# Altium footprint library PcbLib.PcbLib: 285 footprints (part 6 of 18)
Each footprint in its own frame and in the unit in brackets; x right, y up, seen from the top. Pads: shape width x height; smd on the part's side, far side on the other; paste and mask are expansions set on the pad; w line width, h text height; cw(c..) or ccw(c..) is an arc to the next point about the centre after c.
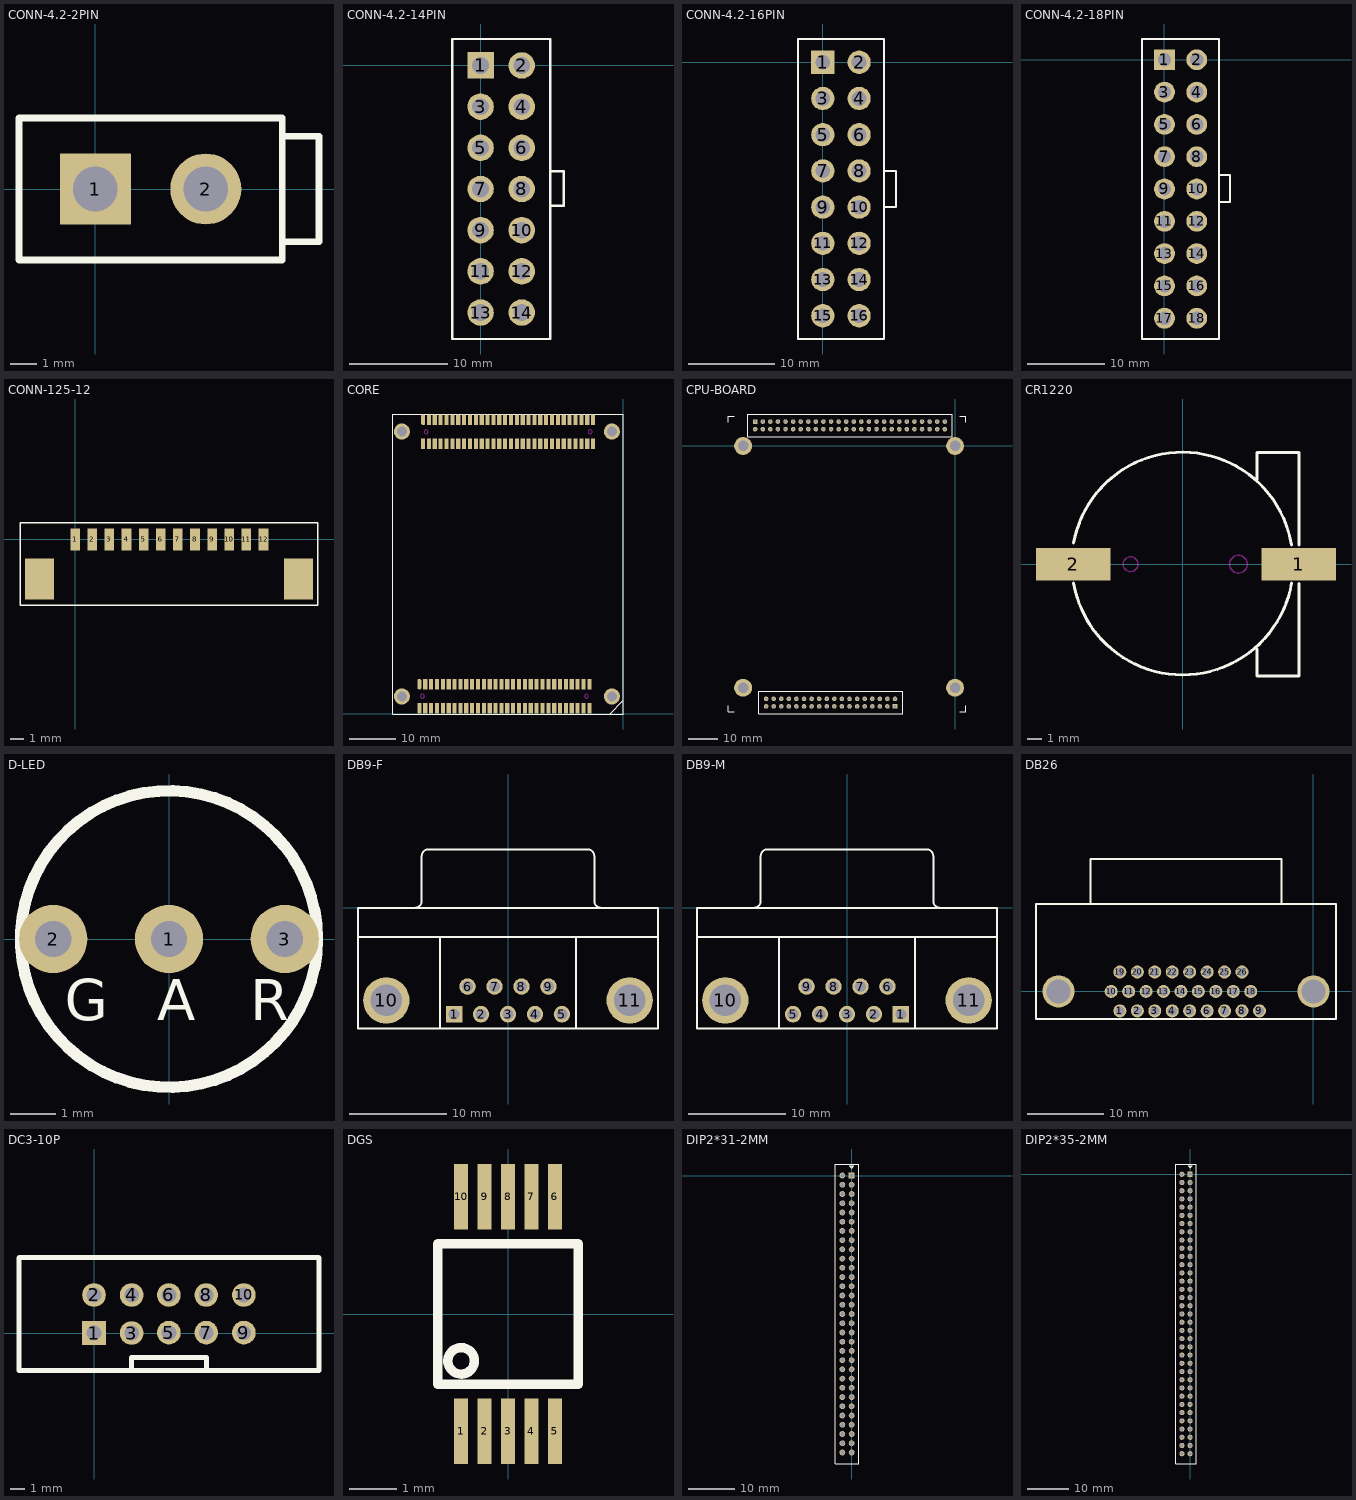
[diagram p5: the footprints below, top view; thin cyan lines are the x and y axes]

## CONN-4.2-2PIN [mm]
pads (2):
  rect 2.7x2.7 hole 1.7: 1(0,0)
  round 2.7 hole 1.7: 2(4.2,0)
Top Overlay:
  lines w0.254: 7.1,-2 8.5,-2 8.5,2 7.1,2 ; -2.9,-2.7 -2.9,2.7 7.1,2.7 7.1,-2.7 -2.9,-2.7

## CONN-4.2-14PIN [mm]
pads (14):
  rect 2.7x2.7 hole 1.7: 1(0,0)
  round 2.7 hole 1.7: 2(4.2,0) 3(0,-4.2) 4(4.2,-4.2) 5(0,-8.4) 6(4.2,-8.4) 7(0,-12.6) 8(4.2,-12.6) 9(0,-16.8) 10(4.2,-16.8) 11(0,-21) 12(4.2,-21) 13(0,-25.2) 14(4.2,-25.2)
Top Overlay:
  lines w0.254: 7.1,-14.3 8.5,-14.3 8.5,-10.8 7.1,-10.8 ; -2.9,-27.9 -2.9,2.7 7.1,2.7 7.1,-27.9 -2.9,-27.9

## CONN-4.2-16PIN [mm]
pads (16):
  rect 2.7x2.7 hole 1.7: 1(0,0)
  round 2.7 hole 1.7: 2(4.2,0) 3(0,-4.2) 4(4.2,-4.2) 5(0,-8.4) 6(4.2,-8.4) 7(0,-12.6) 8(4.2,-12.6) 9(0,-16.8) 10(4.2,-16.8) 11(0,-21) 12(4.2,-21) 13(0,-25.2) 14(4.2,-25.2) 15(0,-29.4) 16(4.2,-29.4)
Top Overlay:
  lines w0.254: 7.1,-16.8 8.5,-16.8 8.5,-12.6 7.1,-12.6 ; -2.9,-32.1 7.1,-32.1 7.1,2.7 -2.9,2.7 -2.9,-32.1

## CONN-4.2-18PIN [mm]
pads (18):
  rect 2.7x2.7 hole 1.7: 1(0,0)
  round 2.7 hole 1.7: 2(4.2,0) 3(0,-4.2) 4(4.2,-4.2) 5(0,-8.4) 6(4.2,-8.4) 7(0,-12.6) 8(4.2,-12.6) 9(0,-16.8) 10(4.2,-16.8) 11(0,-21) 12(4.2,-21) 13(0,-25.2) 14(4.2,-25.2) 15(0,-29.4) 16(4.2,-29.4) 17(0,-33.6) 18(4.2,-33.6)
Top Overlay:
  lines w0.254: 7.1,-18.5 8.5,-18.5 8.5,-15 7.1,-15 ; -2.9,-36.3 7.1,-36.3 7.1,2.7 -2.9,2.7 -2.9,-36.3

## CONN-125-12 [mm]
pads (14):
  rect 0.7x1.6 smd: 1(0,0) 2(1.25,0) 3(2.5,0) 4(3.75,0) 5(5,0) 6(6.25,0) 7(7.5,0) 8(8.75,0) 9(10,0) 10(11.25,0) 11(12.5,0) 12(13.75,0)
  rect 2.1x3 smd: ""(-2.6,-2.9) ""(16.3,-2.9)
Top Overlay:
  lines w0.1: -4,-4.8 -4,1.2 17.7,1.2 17.7,-4.8 -4,-4.8

## CORE [mm]
pads (124):
  oval 0.9x2.3 smd: A1(-43.39,63.74) B1(-44.2,6.46)
  rect 0.9x2.3 smd: A2(-42.13,63.74) A3(-40.86,63.74) A4(-39.59,63.74) A5(-38.32,63.74) A6(-37.05,63.74) A7(-35.78,63.74) A8(-34.51,63.74) A9(-33.24,63.74) A10(-31.97,63.74) A11(-30.7,63.74) A12(-29.43,63.74) A13(-28.16,63.74) A14(-26.89,63.74) A15(-25.62,63.74) A16(-24.35,63.74) A17(-23.08,63.74) A18(-21.81,63.74) A19(-20.54,63.74) A20(-19.27,63.74) A21(-18,63.74) A22(-16.73,63.74) A23(-15.46,63.74) A24(-14.19,63.74) A25(-12.92,63.74) A26(-11.65,63.74) A27(-10.38,63.74) A28(-9.11,63.74) A29(-7.84,63.74) A30(-6.57,63.74) A31(-6.57,58.54) A32(-7.84,58.54) A33(-9.11,58.54) A34(-10.38,58.54) A35(-11.65,58.54) A36(-12.92,58.54) A37(-14.19,58.54) A38(-15.46,58.54) A39(-16.73,58.54) A40(-18,58.54) A41(-19.27,58.54) A42(-20.54,58.54) A43(-21.81,58.54) A44(-23.08,58.54) A45(-24.35,58.54) A46(-25.62,58.54) A47(-26.89,58.54) A48(-28.16,58.54) A49(-29.43,58.54) A50(-30.7,58.54) A51(-31.97,58.54) A52(-33.24,58.54) A53(-34.51,58.54) A54(-35.78,58.54) A55(-37.05,58.54) A56(-38.32,58.54) A57(-39.59,58.54) A58(-40.86,58.54) A59(-42.13,58.54) A60(-43.39,58.54) B2(-42.93,6.46) B3(-41.66,6.46) B4(-40.39,6.46) B5(-39.12,6.46) B6(-37.85,6.46) B7(-36.58,6.46) B8(-35.31,6.46) B9(-34.04,6.46) B10(-32.77,6.46) B11(-31.5,6.46) B12(-30.23,6.46) B13(-28.96,6.46) B14(-27.69,6.46) B15(-26.42,6.46) B16(-25.15,6.46) B17(-23.88,6.46) B18(-22.61,6.46) B19(-21.34,6.46) B20(-20.07,6.46) B21(-18.8,6.46) B22(-17.53,6.46) B23(-16.26,6.46) B24(-14.99,6.46) B25(-13.72,6.46) B26(-12.45,6.46) B27(-11.18,6.46) B28(-9.91,6.46) B29(-8.64,6.46) B30(-7.37,6.46) B31(-7.37,1.26) B32(-8.64,1.26) B33(-9.91,1.26) B34(-11.18,1.26) B35(-12.45,1.26) B36(-13.72,1.26) B37(-14.99,1.26) B38(-16.26,1.26) B39(-17.53,1.26) B40(-18.8,1.26) B41(-20.07,1.26) B42(-21.34,1.26) B43(-22.61,1.26) B44(-23.88,1.26) B45(-25.15,1.26) B46(-26.42,1.26) B47(-27.69,1.26) B48(-28.96,1.26) B49(-30.23,1.26) B50(-31.5,1.26) B51(-32.77,1.26) B52(-34.04,1.26) B53(-35.31,1.26) B54(-36.58,1.26) B55(-37.85,1.26) B56(-39.12,1.26) B57(-40.39,1.26) B58(-41.66,1.26) B59(-42.93,1.26) B60(-44.2,1.26)
  round 3.5 hole 2.2: ""(-48,3.8) ""(-48,61.2) ""(-2.5,3.8) ""(-2.5,61.2)
Top Overlay:
  lines w0.2: -3,0 0,3 ; -50,0 -50,65 -48.1,65 -24.5,65 0,65 0,0 -50,0
Keep-Out Layer:
  circle w0.2: c-7.205,61.14 r0.43
  circle w0.2: c-42.755,61.14 r0.43
  circle w0.2: c-8.005,3.86 r0.43
  circle w0.2: c-43.565,3.86 r0.43

## CPU-BOARD [mm]
pads (92):
  rect 1.524x1.524 hole 0.9: A1(-66.95,8.17) B1(-20.12,-87.24)
  round 1.524 hole 0.9: A2(-66.95,5.63) A3(-64.41,8.17) A4(-64.41,5.63) A5(-61.87,8.17) A6(-61.87,5.63) A7(-59.33,8.17) A8(-59.33,5.63) A9(-56.79,8.17) A10(-56.79,5.63) A11(-54.25,8.17) A12(-54.25,5.63) A13(-51.71,8.17) A14(-51.71,5.63) A15(-49.17,8.17) A16(-49.17,5.63) A17(-46.63,8.17) A18(-46.63,5.63) A19(-44.09,8.17) A20(-44.09,5.63) A21(-41.55,8.17) A22(-41.55,5.63) A23(-39.01,8.17) A24(-39.01,5.63) A25(-36.47,8.17) A26(-36.47,5.63) A27(-33.93,8.17) A28(-33.93,5.63) A29(-31.39,8.17) A30(-31.39,5.63) A31(-28.85,8.17) A32(-28.85,5.63) A33(-26.31,8.17) A34(-26.31,5.63) A35(-23.77,8.17) A36(-23.77,5.63) A37(-21.23,8.17) A38(-21.23,5.63) A39(-18.69,8.17) A40(-18.69,5.63) A41(-16.15,8.17) A42(-16.15,5.63) A43(-13.61,8.17) A44(-13.61,5.63) A45(-11.07,8.17) A46(-11.07,5.63) A47(-8.53,8.17) A48(-8.53,5.63) A49(-5.99,8.17) A50(-5.99,5.63) A51(-3.45,8.17) A52(-3.45,5.63) B2(-20.12,-84.7) B3(-22.66,-87.24) B4(-22.66,-84.7) B5(-25.2,-87.24) B6(-25.2,-84.7) B7(-27.74,-87.24) B8(-27.74,-84.7) B9(-30.28,-87.24) B10(-30.28,-84.7) B11(-32.82,-87.24) B12(-32.82,-84.7) B13(-35.36,-87.24) B14(-35.36,-84.7) B15(-37.9,-87.24) B16(-37.9,-84.7) B17(-40.44,-87.24) B18(-40.44,-84.7) B19(-42.98,-87.24) B20(-42.98,-84.7) B21(-45.52,-87.24) B22(-45.52,-84.7) B23(-48.06,-87.24) B24(-48.06,-84.7) B25(-50.6,-87.24) B26(-50.6,-84.7) B27(-53.14,-87.24) B28(-53.14,-84.7) B29(-55.68,-87.24) B30(-55.68,-84.7) B31(-58.22,-87.24) B32(-58.22,-84.7) B33(-60.76,-87.24) B34(-60.76,-84.7) B35(-63.3,-87.24) B36(-63.3,-84.7)
  round 6 hole 3.5: ""(-71,-81) ""(-71,0) ""(0,-81) ""(0,0)
Top Overlay:
  lines w0.01: -20.48,-87.24 -20.12,-87.24 -19.74,-87.24
  lines w0.254: -76,-87 -76,-89 -74,-89 ; -76,8 -76,10 -74,10 ; 1.5,-89 3.6,-89 3.6,-87 ; 1.5,10 3.6,10 3.6,8 ; -69.49,3.09 -0.91,3.09 -0.91,10.71 -69.49,10.71 -69.49,3.09 ; -65.84,-89.78 -17.58,-89.78 -17.58,-82.16 -65.84,-82.16 -65.84,-89.78

## CR1220 [mm]
pads (2):
  rect 5x2.2 smd: 1(7.8,0) 2(-7.35,0)
Top Overlay:
  lines w0.2: -7.323,-1.274 ccw(c0,0) 7.324,-1.266 ; -7.319,1.413 cw(c-0.019,0.113) 7.3,1.3 ; 5,-5.7 5,-7.5 6.2,-7.5 7.8,-7.5 7.8,-1.3 ; 5,5.7 5,7.5 6.2,7.5 7.8,7.5 7.8,1.3
Keep-Out Layer:
  circle w0.1: c3.75,0 r0.6
  circle w0.1: c-3.5,0 r0.5

## D-LED [mm]
pads (3):
  round 1.5 hole 0.8: 1(0,0) 2(-2.54,0) 3(2.54,0)
Top Overlay:
  circle w0.254: c0,0 r3.253
  text "R" at 1.778,-1.778 h0.9
  text "G" at -2.286,-1.778 h0.9
  text "A" at -0.254,-1.778 h0.9

## DB9-F [mm] "Connector; D Subminiature; 9 Position; Right Angle; Pitch 1.385 mm"
height 12.75
pads (11):
  rect 1.69x1.69 hole 1.09: 1(-5.54,-10.92)
  round 1.69 hole 1.09: 2(-2.77,-10.92) 3(0,-10.92) 4(2.77,-10.92) 5(5.54,-10.92) 6(-4.155,-8.08) 7(-1.385,-8.08) 8(1.385,-8.08) 9(4.155,-8.08)
  round 4.76 hole 3.26: 10(-12.495,-9.5) 11(12.495,-9.5)
Top Overlay:
  lines w0.2: -15.4,-3 15.4,-3 ; -9.56,0.005 ccw(c-9.56,0.7) -8.865,0.7 -8.865,5.3 ; -8.86,5.305 cw(c-8.165,5.305) -8.165,6 8.165,6 cw(c8.165,5.305) 8.86,5.305 ; -7,-12.4 -7,-3 ; 7,-12.4 7,-3 ; 8.865,5.3 8.865,0.7 ccw(c9.56,0.7) 9.56,0.005 ; -15.4,-12.4 -15.4,0 15.4,0 15.4,-12.4 -15.4,-12.4

## DB9-M [mm] "Connector; D Subminiature; 9 Position; Right Angle; Pitch 1.385 mm"
height 12.75
pads (11):
  rect 1.69x1.69 hole 1.09: 1(5.54,-10.92)
  round 1.69 hole 1.09: 2(2.77,-10.92) 3(0,-10.92) 4(-2.77,-10.92) 5(-5.54,-10.92) 6(4.155,-8.08) 7(1.385,-8.08) 8(-1.385,-8.08) 9(-4.155,-8.08)
  round 4.76 hole 3.26: 10(-12.495,-9.5) 11(12.495,-9.5)
Top Overlay:
  lines w0.2: -15.4,-3 15.4,-3 ; -9.56,0.005 ccw(c-9.56,0.7) -8.865,0.7 -8.865,5.3 ; -8.86,5.305 cw(c-8.165,5.305) -8.165,6 8.165,6 cw(c8.165,5.305) 8.86,5.305 ; -7,-12.4 -7,-3 ; 7,-12.4 7,-3 ; 8.865,5.3 8.865,0.7 ccw(c9.56,0.7) 9.56,0.005 ; -15.4,-12.4 15.4,-12.4 15.4,0 -15.4,0 -15.4,-12.4

## DB26 [mm]
pads (28):
  round 1.7 hole 1.19: 1(-25.3,-2.54) 2(-23.02,-2.54) 3(-20.74,-2.54) 4(-18.46,-2.54) 5(-16.18,-2.54) 6(-13.9,-2.54) 7(-11.62,-2.54) 8(-9.34,-2.54) 9(-7.06,-2.54) 10(-26.44,0) 11(-24.16,0) 12(-21.88,0) 13(-19.6,0) 14(-17.32,0) 15(-15.04,0) 16(-12.76,0) 17(-10.48,0) 18(-8.2,0) 19(-25.3,2.54) 20(-23.02,2.54) 21(-20.74,2.54) 22(-18.46,2.54) 23(-16.18,2.54) 24(-13.9,2.54) 25(-11.62,2.54) 26(-9.34,2.54)
  round 4.18 hole 3.18: ""(-33.32,0) ""(0,0)
Top Overlay:
  lines w0.254: -36.26,11.42 -36.26,6.19 -36.26,0 -36.26,-3.62 -26.25,-3.62 ; -36.23,11.41 -36.25,11.43 -28.59,11.43 -9.34,11.43 2.94,11.43 2.94,7.63 2.94,0 2.94,-3.63 ; -29.15,11.43 -29.15,17.33 -27.74,17.33 -11.07,17.33 -4.16,17.33 -4.16,11.43 ; -26.24,-3.63 -11.07,-3.63 2.94,-3.63 ; 2.94,-3.63 2.94,-3.63

## DC3-10P [mm]
pads (10):
  rect 1.6x1.6 hole 1: 1(0,0)
  round 1.6 hole 1: 2(0,2.575) 3(2.55,0) 4(2.55,2.575) 5(5.075,0.025) 6(5.075,2.575) 7(7.6,0.025) 8(7.6,2.575) 9(10.15,0.025) 10(10.15,2.575)
Top Overlay:
  lines w0.35: 2.54,-2.54 2.54,-1.651 7.62,-1.651 7.62,-2.54 ; -5.08,-2.54 -5.08,5.08 -5.045,5.115 0,5.115 15.205,5.115 15.24,5.08 15.24,-2.54 -5.08,-2.54

## DGS [mm]
pads (10):
  rect 0.3x1.4 smd: 1(-1,-2.5) 2(-0.5,-2.5) 3(0,-2.5) 4(0.5,-2.5) 5(1,-2.5) 6(1,2.5) 7(0.5,2.5) 8(0,2.5) 9(-0.5,2.5) 10(-1,2.5)
Top Overlay:
  circle w0.2: c-1,-1 r0.283
  lines w0.2: -1.5,-1.5 0,-1.5 1.5,-1.5 1.5,1.5 -1.5,1.5 -1.5,-1.5

## DIP2*31-2MM [mm]
pads (62):
  rect 1.25x1.25 hole 0.889: 1(0,0)
  round 1.25 hole 0.889: 2(-2,0) 3(0,-2) 4(-2,-2) 5(0,-4) 6(-2,-4) 7(0,-6) 8(-2,-6) 9(0,-8) 10(-2,-8) 11(0,-10) 12(-2,-10) 13(0,-12) 14(-2,-12) 15(0,-14) 16(-2,-14) 17(0,-16) 18(-2,-16) 19(0,-18) 20(-2,-18) 21(0,-20) 22(-2,-20) 23(0,-22) 24(-2,-22) 25(0,-24) 26(-2,-24) 27(0,-26) 28(-2,-26) 29(0,-28) 30(-2,-28) 31(0,-30) 32(-2,-30) 33(0,-32) 34(-2,-32) 35(0,-34) 36(-2,-34) 37(0,-36) 38(-2,-36) 39(0,-38) 40(-2,-38) 41(0,-40) 42(-2,-40) 43(0,-42) 44(-2,-42) 45(0,-44) 46(-2,-44) 47(0,-46) 48(-2,-46) 49(0,-48) 50(-2,-48) 51(0,-50) 52(-2,-50) 53(0,-52) 54(-2,-52) 55(0,-54) 56(-2,-54) 57(0,-56) 58(-2,-56) 59(0,-58) 60(-2,-58) 61(0,-60) 62(-2,-60)
Top Overlay:
  lines w0.254: -3.5,-62.5 -3.5,-20.4 -3.5,-12.4 -3.5,2.5 1.5,2.5 1.5,-12.5 1.5,-20.5 1.5,-62.5 -3.5,-62.5 ; -0.5,2.1 0.5,2.1 0,1.6 -0.5,2.1

## DIP2*35-2MM [mm]
pads (70):
  rect 1.25x1.25 hole 0.889: 1(0,0)
  round 1.25 hole 0.889: 2(-2,0) 3(0,-2) 4(-2,-2) 5(0,-4) 6(-2,-4) 7(0,-6) 8(-2,-6) 9(0,-8) 10(-2,-8) 11(0,-10) 12(-2,-10) 13(0,-12) 14(-2,-12) 15(0,-14) 16(-2,-14) 17(0,-16) 18(-2,-16) 19(0,-18) 20(-2,-18) 21(0,-20) 22(-2,-20) 23(0,-22) 24(-2,-22) 25(0,-24) 26(-2,-24) 27(0,-26) 28(-2,-26) 29(0,-28) 30(-2,-28) 31(0,-30) 32(-2,-30) 33(0,-32) 34(-2,-32) 35(0,-34) 36(-2,-34) 37(0,-36) 38(-2,-36) 39(0,-38) 40(-2,-38) 41(0,-40) 42(-2,-40) 43(0,-42) 44(-2,-42) 45(0,-44) 46(-2,-44) 47(0,-46) 48(-2,-46) 49(0,-48) 50(-2,-48) 51(0,-50) 52(-2,-50) 53(0,-52) 54(-2,-52) 55(0,-54) 56(-2,-54) 57(0,-56) 58(-2,-56) 59(0,-58) 60(-2,-58) 61(0,-60) 62(-2,-60) 63(0,-62) 64(-2,-62) 65(0,-64) 66(-2,-64) 67(0,-66) 68(-2,-66) 69(0,-68) 70(-2,-68)
Top Overlay:
  lines w0.254: -3.5,-70.5 1.5,-70.5 1.5,-62.5 1.5,-20.5 1.5,-12.5 1.5,2.5 -3.5,2.5 -3.5,-12.4 -3.5,-20.4 -3.5,-62.5 -3.5,-70.5 ; -0.5,2.1 0.5,2.1 0,1.6 -0.5,2.1